# Altium footprint library PCB1.PcbLib: 3 footprints
Each footprint in its own frame and in the unit in brackets; x right, y up, seen from the top. Pads: shape width x height; smd on the part's side, far side on the other; paste and mask are expansions set on the pad; w line width, h text height; cw(c..) or ccw(c..) is an arc to the next point about the centre after c.
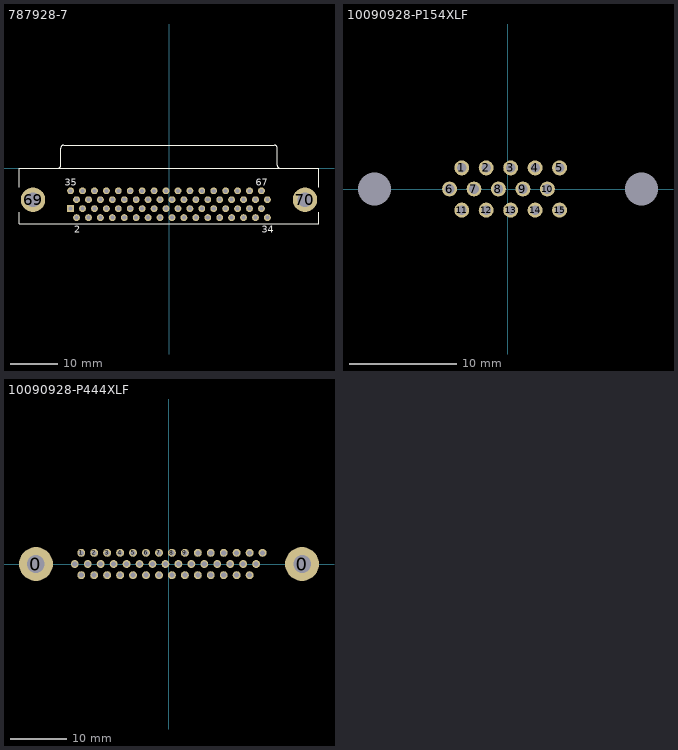
[diagram p0: the footprints below, top view; thin cyan lines are the x and y axes]

## 787928-7 [mm] "Connector; D Subminiature 050 Series; 68 Position; Right Angle"
height 10.44
pads (70):
  rect 1.46x1.46 hole 0.86: 1(-20.955,-8.555)
  round 1.46 hole 0.86: 2(-19.685,-10.46) 3(-18.415,-8.555) 4(-17.145,-10.46) 5(-15.875,-8.555) 6(-14.605,-10.46) 7(-13.335,-8.555) 8(-12.065,-10.46) 9(-10.795,-8.555) 10(-9.525,-10.46) 11(-8.255,-8.555) 12(-6.985,-10.46) 13(-5.715,-8.555) 14(-4.445,-10.46) 15(-3.175,-8.555) 16(-1.905,-10.46) 17(-0.635,-8.555) 18(0.635,-10.46) 19(1.905,-8.555) 20(3.175,-10.46) 21(4.445,-8.555) 22(5.715,-10.46) 23(6.985,-8.555) 24(8.255,-10.46) 25(9.525,-8.555) 26(10.795,-10.46) 27(12.065,-8.555) 28(13.335,-10.46) 29(14.605,-8.555) 30(15.875,-10.46) 31(17.145,-8.555) 32(18.415,-10.46) 33(19.685,-8.555) 34(20.955,-10.46) 35(-20.955,-4.745) 36(-19.685,-6.65) 37(-18.415,-4.745) 38(-17.145,-6.65) 39(-15.875,-4.745) 40(-14.605,-6.65) 41(-13.335,-4.745) 42(-12.065,-6.65) 43(-10.795,-4.745) 44(-9.525,-6.65) 45(-8.255,-4.745) 46(-6.985,-6.65) 47(-5.715,-4.745) 48(-4.445,-6.65) 49(-3.175,-4.745) 50(-1.905,-6.65) 51(-0.635,-4.745) 52(0.635,-6.65) 53(1.905,-4.745) 54(3.175,-6.65) 55(4.445,-4.745) 56(5.715,-6.65) 57(6.985,-4.745) 58(8.255,-6.65) 59(9.525,-4.745) 60(10.795,-6.65) 61(12.065,-4.745) 62(13.335,-6.65) 63(14.605,-4.745) 64(15.875,-6.65) 65(17.145,-4.745) 66(18.415,-6.65) 67(19.685,-4.745) 68(20.955,-6.65)
  round 5.2 hole 3.18: 69(-28.955,-6.65) 70(28.955,-6.65)
Top Overlay:
  lines w0.2: -31.94,-9.298 -31.94,-11.76 31.94,-11.76 31.94,-9.298 ; -31.94,-4.002 -31.94,0 31.94,0 31.94,-4.002 ; -23.76,0.015 ccw(c-23.76,0.71) -23.065,0.71 -23.065,4.3 cw(c-22.37,4.3) -22.37,4.995 ; -22.37,5 22.37,5 ; 22.37,4.995 cw(c22.37,4.3) 23.065,4.3 23.065,0.71 ccw(c23.76,0.71) 23.76,0.015
  lines w0.254: -29.292,-6.65 -28.955,-6.65
  text "2" at -20.185,-13.735 h1.5
  text "34" at 19.705,-13.735 h1.5
  text "35" at -22.205,-3.64 h1.5
  text "67" at 18.435,-3.64 h1.5
3D body "c-1761028-4-c-3d.stp": height 10.24, standoff -2.74, extent -31.991,-11.786 31.89,5.08

## 10090928-P154XLF [mm]
pads (17):
  round 0 hole 3.1 unplated: 0(-12.495,0) 0(12.495,0)
  round 1.4 hole 0.9: 1(-4.33,1.98) 2(-2.04,1.98) 3(0.25,1.98) 4(2.54,1.98) 5(4.83,1.98) 6(-5.475,0) 7(-3.185,0) 8(-0.895,0) 9(1.395,0) 10(3.685,0) 11(-4.33,-1.98) 12(-2.04,-1.98) 13(0.25,-1.98) 14(2.54,-1.98) 15(4.83,-1.98)
3D body "10090928-P15.stp": height 12.05, standoff -3.05, extent -15.415,-6.25 15.4,6.3

## 10090928-P444XLF [mm]
pads (46):
  round 6 hole 3.1: 0(-23.52,0) 0(23.52,0)
  round 1.4 hole 0.9: 1(-15.515,1.98) 2(-13.225,1.98) 3(-10.935,1.98) 4(-8.645,1.98) 5(-6.355,1.98) 6(-4.065,1.98) 7(-1.775,1.98) 8(0.515,1.98) 9(2.805,1.98) 10(5.095,1.98) 11(7.385,1.98) 12(9.675,1.98) 13(11.965,1.98) 14(14.255,1.98) 15(16.545,1.98) 16(-16.66,0) 17(-14.37,0) 18(-12.08,0) 19(-9.79,0) 20(-7.5,0) 21(-5.21,0) 22(-2.92,0) 23(-0.63,0) 24(1.66,0) 25(3.95,0) 26(6.24,0) 27(8.53,0) 28(10.82,0) 29(13.11,0) 30(15.4,0) 31(-15.515,-1.98) 32(-13.225,-1.98) 33(-10.935,-1.98) 34(-8.645,-1.98) 35(-6.355,-1.98) 36(-4.065,-1.98) 37(-1.775,-1.98) 38(0.515,-1.98) 39(2.805,-1.98) 40(5.095,-1.98) 41(7.385,-1.98) 42(9.675,-1.98) 43(11.965,-1.98) 44(14.255,-1.98)
3D body "10090928-P444XLFC.stp": height 11.85, standoff -3.05, extent -26.485,-6.275 26.515,6.275